# EAGLE library part RASPI-HAT (library arno)
Raspberry Pi HAT More information on the Raspberry Pi HAT repository (on GitHub) <https://github.com/raspberrypi/hats>. Inspired by / based on the design by Ivan Zilic (Flyfish Technologies) <https://www.raspberrypi.org/forums/viewtopic.php?f=100&t=82618>.
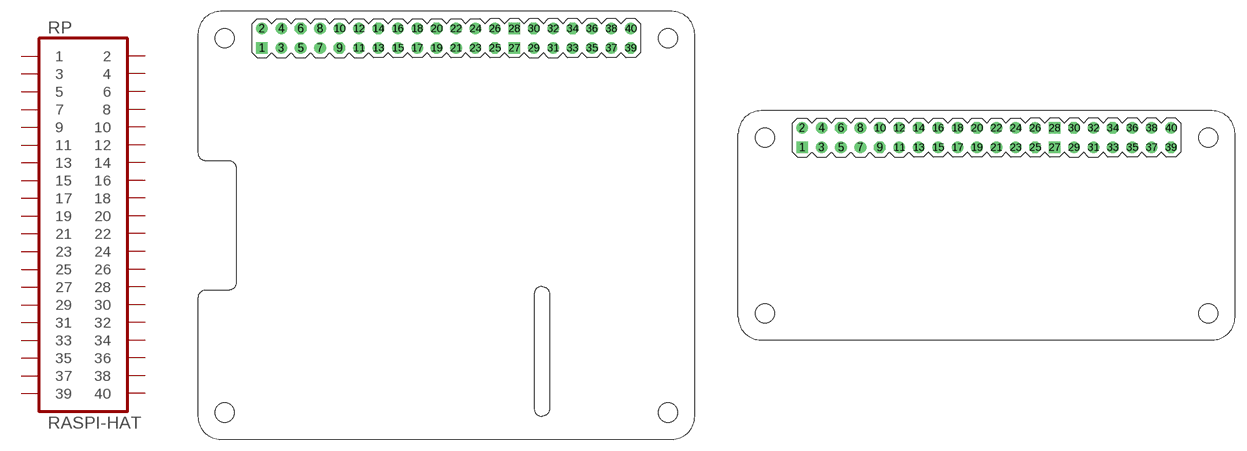
[diagram p20: symbol with the pads of RASPI-HAT-BASIC; footprints RASPI-HAT-BASIC, RASPI-ZERO]

Designator prefix RP

## RASPI-HAT-BASIC  [RASPI-HAT-BASIC]
1  1  pas
2  2  pas
3  3  pas
4  4  pas
5  5  pas
6  6  pas
7  7  pas
8  8  pas
9  9  pas
10  10  pas
11  11  pas
12  12  pas
13  13  pas
14  14  pas
15  15  pas
16  16  pas
17  17  pas
18  18  pas
19  19  pas
20  20  pas
21  21  pas
22  22  pas
23  23  pas
24  24  pas
25  25  pas
26  26  pas
27  27  pas
28  28  pas
29  29  pas
30  30  pas
31  31  pas
32  32  pas
33  33  pas
34  34  pas
35  35  pas
36  36  pas
37  37  pas
38  38  pas
39  39  pas
40  40  pas

## RASPI-HAT-ZERO  [RASPI-ZERO]
Pads as for RASPI-HAT-BASIC

## Footprint RASPI-HAT-BASIC (pad centres in mm)
Basic HAT layout Based on the design by Ivan Zilic (Flyfish Technologies) <https://www.raspberrypi.org/forums/viewtopic.php?f=100&t=82618> and the official Raspberry Pi HAT Board Specification <https://github.com/raspberrypi/hats/blob/67e0b671acccfd783c5e904e47a1425570d5e7d5/hat-board-mechanical.pdf>.
drill 1.016 square: 1 8.37,51.23; 27 41.39,51.23; 28 41.39,53.77
drill 1.016: 2 8.37,53.77; 3 10.91,51.23; 4 10.91,53.77; 5 13.45,51.23; 7 15.99,51.23; 8 15.99,53.77; 10 18.53,53.77; 11 21.07,51.23; 12 21.07,53.77; 13 23.61,51.23; 15 26.15,51.23; 16 26.15,53.77; 17 28.69,51.23; 18 28.69,53.77; 19 31.23,51.23; 21 33.77,51.23; 22 33.77,53.77; 23 36.31,51.23; 24 36.31,53.77; 26 38.85,53.77; 29 43.93,51.23; 31 46.47,51.23; 32 46.47,53.77; 33 49.01,51.23; 35 51.55,51.23; 36 51.55,53.77; 37 54.09,51.23; 38 54.09,53.77; 40 56.63,53.77
drill 1.016 octagon: 6 13.45,53.77; 9 18.53,51.23; 14 23.61,53.77; 20 31.23,53.77; 25 38.85,51.23; 30 43.93,53.77; 34 49.01,53.77; 39 56.63,51.23
hole 2.5 at 3.5,3.5
hole 2.5 at 61.5,3.5
hole 2.5 at 3.5,52.5
hole 2.5 at 61.5,52.5

## Footprint RASPI-ZERO (pad centres in mm)
drill 1.016 square: 1 8.37,25.23; 27 41.39,25.23; 28 41.39,27.77
drill 1.016: 2 8.37,27.77; 3 10.91,25.23; 4 10.91,27.77; 5 13.45,25.23; 7 15.99,25.23; 8 15.99,27.77; 10 18.53,27.77; 11 21.07,25.23; 12 21.07,27.77; 13 23.61,25.23; 15 26.15,25.23; 16 26.15,27.77; 17 28.69,25.23; 18 28.69,27.77; 19 31.23,25.23; 21 33.77,25.23; 22 33.77,27.77; 23 36.31,25.23; 24 36.31,27.77; 26 38.85,27.77; 29 43.93,25.23; 31 46.47,25.23; 32 46.47,27.77; 33 49.01,25.23; 35 51.55,25.23; 36 51.55,27.77; 37 54.09,25.23; 38 54.09,27.77; 40 56.63,27.77
drill 1.016 octagon: 6 13.45,27.77; 9 18.53,25.23; 14 23.61,27.77; 20 31.23,27.77; 25 38.85,25.23; 30 43.93,27.77; 34 49.01,27.77; 39 56.63,25.23
hole 2.5 at 3.5,3.5
hole 2.5 at 61.5,3.5
hole 2.5 at 3.5,26.5
hole 2.5 at 61.5,26.5